# EAGLE library part LTC2986HLX (library PP_Sensors)
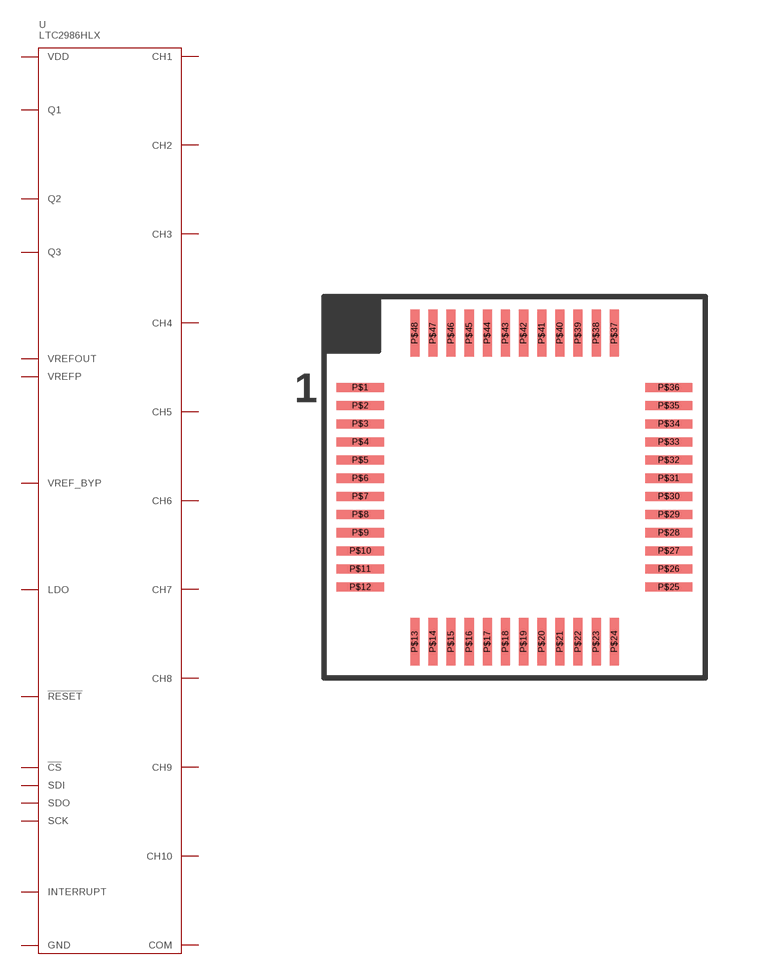
[diagram p13: symbol with the pads of LQFP-48; footprint LQFP-48]

Designator prefix U

## LTC2986HLX#PBF (MPN: LTC2986HLX#PBF; POPULATE: 1)  [LQFP-48]
P$1  GND
P$2  VDD
P$3  GND
P$4  VDD
P$5  GND
P$6  VDD
P$7  GND
P$8  VDD
P$9  GND
P$11  VREF_BYP
P$12  GND
P$13  VREFOUT
P$14  VREFP
P$15  GND
P$16  CH1
P$17  CH2
P$18  CH3
P$19  CH4
P$20  CH5
P$21  CH6
P$22  CH7
P$23  CH8
P$24  CH9
P$25  CH10
P$26  GND
P$27  GND
P$28  GND
P$29  GND
P$30  GND
P$31  GND
P$32  GND
P$33  GND
P$34  GND
P$35  GND
P$36  COM
P$37  INTERRUPT
P$38  SCK
P$39  SDO
P$40  SDI
P$41  !CS
P$42  !RESET
P$43  LDO
P$44  GND
P$45  VDD
P$46  Q3
P$47  Q2
P$48  Q1

## Footprint LQFP-48 (pad centres in mm)
smd 1.3 x 0.25: P$1 -4.25,2.75; P$2 -4.25,2.25; P$3 -4.25,1.75; P$4 -4.25,1.25; P$5 -4.25,0.75; P$6 -4.25,0.25; P$7 -4.25,-0.25; P$8 -4.25,-0.75; P$9 -4.25,-1.25; P$10 -4.25,-1.75; P$11 -4.25,-2.25; P$12 -4.25,-2.75; P$25 4.25,-2.75; P$26 4.25,-2.25; P$27 4.25,-1.75; P$28 4.25,-1.25; P$29 4.25,-0.75; P$30 4.25,-0.25; P$31 4.25,0.25; P$32 4.25,0.75; P$33 4.25,1.25; P$34 4.25,1.75; P$35 4.25,2.25; P$36 4.25,2.75
smd 0.25 x 1.3: P$13 -2.75,-4.25; P$14 -2.25,-4.25; P$15 -1.75,-4.25; P$16 -1.25,-4.25; P$17 -0.75,-4.25; P$18 -0.25,-4.25; P$19 0.25,-4.25; P$20 0.75,-4.25; P$21 1.25,-4.25; P$22 1.75,-4.25; P$23 2.25,-4.25; P$24 2.75,-4.25; P$37 2.75,4.25; P$38 2.25,4.25; P$39 1.75,4.25; P$40 1.25,4.25; P$41 0.75,4.25; P$42 0.25,4.25; P$43 -0.25,4.25; P$44 -0.75,4.25; P$45 -1.25,4.25; P$46 -1.75,4.25; P$47 -2.25,4.25; P$48 -2.75,4.25